# EAGLE library part FDS6681Z (library zz-m-pad-2.1)
Fairchild's FDS6681Z 30 Volt P-Channel PowerTrench® MOSFET General Description This P-Channel MOSFET is produced using Fairchild Semiconductor's advanced PowerTrench® process that has been especially tailored to minimize the on-state resistance. This device is well suited for Power Management and load switching applications common in Notebook Computers and Portable Battery Packs. Features: -20 A, -30 V. RDS(ON) = 4.6 mOhm @ VGS = -10 V RDS(ON) = 6.5 mOhm @ VGS = -4.5 V Extended VGSS range (-25V) for battery applications HBM ESD protection level of 8kV typical (note 3) High performance trench technology for extremely low RDS(ON) High power and current handling capability Termination is Lead-free and RoHS Compliant Please send any comments to: messi@users.sourceforge.net
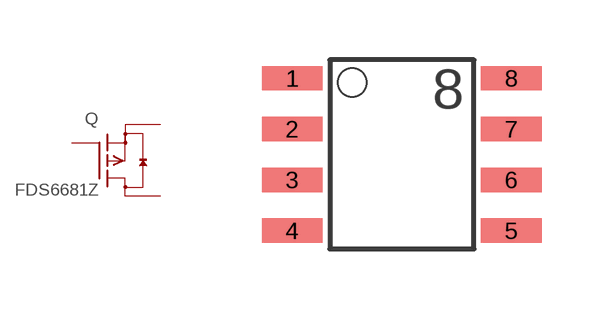
[diagram p85: symbol with the pads of SO-8; footprint SO-8]

Designator prefix Q

## FDS6681Z  [SO-8]
1  S  pas
2  S  pas
3  S  pas
4  G  pas
5  D  pas
6  D  pas
7  D  pas
8  D  pas

## Footprint SO-8 (pad centres in mm)
small outline
smd 1.524 x 0.61: 1 -2.743,1.27; 2 -2.743,0; 3 -2.743,-1.27; 4 -2.743,-2.54; 5 2.743,-2.54; 6 2.743,-1.27; 7 2.743,0; 8 2.743,1.27